# Altium footprint library flight-controller.PcbLib: 66 footprints (part 2 of 5)
Each footprint in its own frame and in the unit in brackets; x right, y up, seen from the top. Pads: shape width x height; smd on the part's side, far side on the other; paste and mask are expansions set on the pad; w line width, h text height; cw(c..) or ccw(c..) is an arc to the next point about the centre after c.
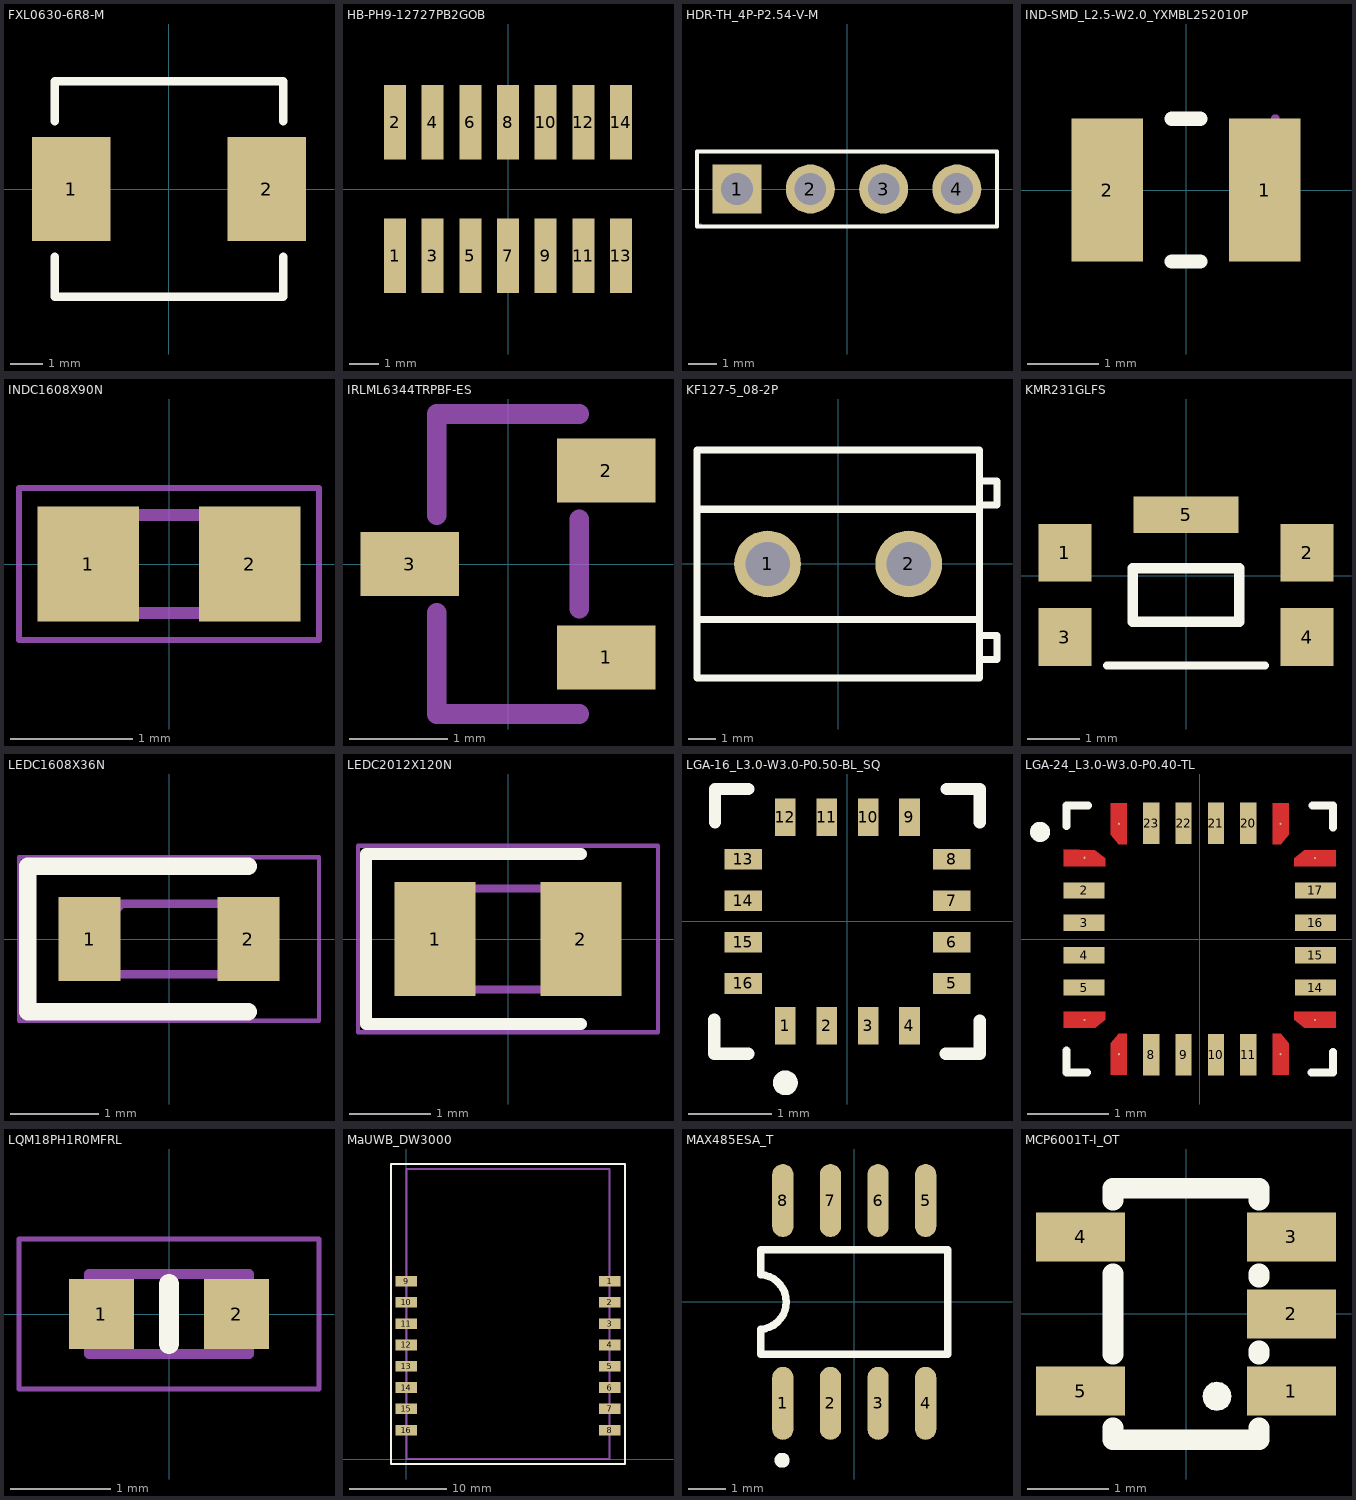
[diagram p1: the footprints below, top view; thin cyan lines are the x and y axes]

## FXL0630-6R8-M [mm]
pads (2):
  rect 2.4x3.2 smd: 1(-3,0) 2(3,0)
Top Overlay:
  lines w0.254: -3.5,-2.081 -3.5,-3.3 -3.49,-3.3 3.5,-3.3 3.5,-2.081 ; -3.5,2.081 -3.5,3.3 3.48,3.3 3.5,3.28 ; 3.5,2.081 3.5,3.3
3D body "FXL0630-6R8-M.step": height 3.1, standoff 0, extent -3.5,-3.301 3.5,3.3

## HB-PH9-12727PB2GOB [mm]
pads (14):
  rect 0.74x2.5 smd: 1(-3.81,-2.25) 2(-3.81,2.25) 3(-2.54,-2.25) 4(-2.54,2.25) 5(-1.27,-2.25) 6(-1.27,2.25) 7(0,-2.25) 8(0,2.25) 9(1.27,-2.25) 10(1.27,2.25) 11(2.54,-2.25) 12(2.54,2.25) 13(3.81,-2.25) 14(3.81,2.25)
3D body "HB-PH9-12727PB2GOB.step": height 5.5, standoff 0, extent -4.455,-2.75 4.445,2.75

## HDR-TH_4P-P2.54-V-M [mm]
pads (4):
  rect 1.7x1.7 hole 1.1: 1(-3.81,0)
  round 1.7 hole 1.1: 2(-1.27,0) 3(1.27,0) 4(3.81,0)
Top Overlay:
  lines w0.15: -5.2,-1.3 -5.2,1.3 5.2,1.3 5.2,-1.3 -5.2,-1.3
Mechanical 6:
  circle w0.06: c-5.08,-1.25 r0.03
3D body "HDR-TH_4P-P2.54-M-LI-1X4P.step": height 8.54, standoff -3, extent -5.08,-1.33 5.09,1.33

## IND-SMD_L2.5-W2.0_YXMBL252010P [mm]
pads (2):
  rect 1x2 smd: 1(1.1,0) 2(-1.1,0)
Top Overlay:
  lines w0.2: -0.2,-1 0.2,-1 ; -0.2,1 0.2,1
Mechanical 6:
  circle w0.06: c1.25,1 r0.03
3D body "IND-SMD_L2.5-W2.0_YXMBL252010P.step": height 1, standoff -0.01, extent -1.26,-1.01 1.26,1

## INDC1608X90N [mm]
pads (2):
  rect 0.83x0.94 smd: 1(-0.66,0) 2(0.66,0)
Mechanical 13:
  lines w0.1: -0.8,-0.4 0.8,-0.4 0.8,0.4 -0.8,0.4 -0.8,-0.4
Mechanical 15:
  lines w0.05: -1.225,-0.62 1.225,-0.62 1.225,0.62 -1.225,0.62 -1.225,-0.62
3D body "LQG18HN27NJ00D.stp": height 0.95, standoff 0, extent -0.8,-0.4 0.8,0.4

## IRLML6344TRPBF-ES [mm]
pads (3):
  rect 1x0.65 smd: 1(1,-0.95) 2(1,0.95) 3(-1,0)
Mechanical 15:
  lines w0.2: -0.726,-0.495 -0.726,-1.526 0.726,-1.526 ; -0.726,0.495 -0.726,1.526 0.726,1.526 ; 0.726,-0.455 0.726,0.455
3D body "IRLML6344TRPBF-ES.step": height 1.1, standoff 0.05, extent -1.253,-1.45 1.253,1.45

## KF127-5_08-2P [mm]
pads (2):
  rrect100% 2.4x2.4 hole 1.6: 1(-2.54,0) 2(2.54,0)
Top Overlay:
  lines w0.254: -5.08,-1.993 5.08,-1.993 ; -5.08,1.97 5.08,1.97 ; 5.08,-3.429 5.715,-3.429 5.715,-2.572 5.08,-2.572 ; 5.08,2.127 5.715,2.127 5.715,2.984 5.08,2.984 ; -5.08,-4.1 5.08,-4.1 5.08,4.1 -5.08,4.1 -5.08,-4.1
3D body "KF127-5_08-2P.step": height 10.1, standoff -3.5, extent -5.08,-4.1 5.65,4.1

## KMR231GLFS [mm]
pads (5):
  rect 1x1.1 smd: 1(-2.3,0.438) 2(2.3,0.438) 3(-2.3,-1.162) 4(2.3,-1.162)
  rect 2x0.7 smd: 5(0,1.162)
Top Overlay:
  lines w0.15: -1.5,-1.7 1.5,-1.7
  lines w0.2: -1.016,-0.87 -1.016,0.146 1.016,0.146 1.016,-0.87 -1.016,-0.87
3D body "KMR231GLFS.step": height 1.95, standoff -0.03, extent -2.275,-1.775 2.325,1.068

## LEDC1608X36N [mm]
pads (2):
  rect 0.7x0.95 smd: 1(-0.9,0) 2(0.9,0)
Top Overlay:
  lines w0.2: 0.9,-0.825 -1.6,-0.825 -1.6,0.825 0.9,0.825
Mechanical 13:
  lines w0.1: -0.8,0.133 -0.533,0.4 ; -0.8,-0.4 0.8,-0.4 0.8,0.4 -0.8,0.4 -0.8,-0.4
Mechanical 15:
  lines w0.05: -1.7,-0.925 1.7,-0.925 1.7,0.925 -1.7,0.925 -1.7,-0.925
3D body "SML-E12P8WT86.step": height 0.59, standoff -0.01, extent -0.81,-0.4 0.81,0.4

## LEDC2012X120N [mm]
pads (2):
  rect 1x1.4 smd: 1(-0.9,0) 2(0.9,0)
Top Overlay:
  lines w0.15: 0.9,-1.05 -1.75,-1.05 -1.75,1.05 0.9,1.05
Mechanical 13:
  lines w0.1: -1,0.208 -0.583,0.625 ; -1,-0.625 -1,0.625 1,0.625 1,-0.625 -1,-0.625
Mechanical 15:
  lines w0.05: -1.85,-1.15 -1.85,1.15 1.85,1.15 1.85,-1.15 -1.85,-1.15
3D body "LTST-C170KRKT.stp": height 1.1, standoff 0, extent -1.028,-0.62 0.972,0.63

## LGA-16_L3.0-W3.0-P0.50-BL_SQ [mm]
pads (16):
  rect 0.25x0.45 smd: 1(-0.75,-1.26) 2(-0.25,-1.26) 3(0.25,-1.26) 4(0.75,-1.26) 9(0.75,1.26) 10(0.25,1.26) 11(-0.25,1.26) 12(-0.75,1.26)
  rect 0.45x0.25 smd: 5(1.26,-0.75) 6(1.26,-0.25) 7(1.26,0.25) 8(1.26,0.75) 13(-1.26,0.75) 14(-1.26,0.25) 15(-1.26,-0.25) 16(-1.26,-0.75)
Top Overlay:
  circle w0.15: c-0.75,-1.95 r0.075
  lines w0.15: -1.61,-1.19 -1.61,-1.6 -1.2,-1.6 ; -1.6,1.2 -1.6,1.6 -1.2,1.6 ; 1.19,-1.6 1.6,-1.6 1.6,-1.2 ; 1.2,1.6 1.6,1.6 1.6,1.2
3D body "LGA-16_L3.0-W3.0-H0.9-P0.50.step": height 0.92, standoff 0, extent -1.5,-1.5 1.5,1.5

## LGA-24_L3.0-W3.0-P0.40-TL [mm]
pads (32):
  round 0.01 smd: 1(-1.43,1) 6(-1.43,-1) 7(-1,-1.43) 12(1,-1.43) 13(1.43,-1) 18(1.43,1) 19(1,1.43) 24(-1,1.43)
  round 0.025 smd: 1(-1.425,1.005) 6(-1.425,-1) 7(-1,-1.425) 12(1,-1.425) 13(1.425,-1) 18(1.425,1) 19(1,1.425) 24(-1,1.425)
  rect 0.51x0.2 smd: 2(-1.43,0.6) 3(-1.43,0.2) 4(-1.43,-0.2) 5(-1.43,-0.6) 14(1.43,-0.6) 15(1.43,-0.2) 16(1.43,0.2) 17(1.43,0.6)
  rect 0.2x0.51 smd: 8(-0.6,-1.43) 9(-0.2,-1.43) 10(0.2,-1.43) 11(0.6,-1.43) 20(0.6,1.43) 21(0.2,1.43) 22(-0.2,1.43) 23(-0.6,1.43)
Top Layer:
  region: -1.17,-1 -1.29,-1.1 -1.68,-1.1 -1.68,-0.9 -1.17,-0.9
  region: -0.9,-1.68 -1.1,-1.68 -1.1,-1.29 -1,-1.17 -0.9,-1.17
  region: 1.1,-1.29 1.1,-1.68 0.9,-1.68 0.9,-1.17 1,-1.17
  region: 1.68,-1.1 1.29,-1.1 1.17,-1 1.17,-0.9 1.68,-0.9
  region: 1.68,0.9 1.17,0.9 1.17,1 1.29,1.1 1.68,1.1
  region: 1.1,1.29 1,1.17 0.9,1.17 0.9,1.68 1.1,1.68
  region: -0.9,1.17 -1,1.17 -1.1,1.29 -1.1,1.68 -0.9,1.68
  region: -1.3,1.1 -1.17,1 -1.17,0.9 -1.68,0.9 -1.68,1.11
Top Overlay:
  circle w0.15: c-1.975,1.325 r0.05
  lines w0.1: -1.65,-1.38 -1.65,-1.65 -1.395,-1.65 ; -1.65,1.395 -1.65,1.65 ; -1.635,1.65 -1.38,1.65 ; 1.38,-1.65 1.635,-1.65 ; 1.395,1.65 1.65,1.65 ; 1.65,-1.65 1.65,-1.395 ; 1.65,1.38 1.65,1.635
Top Paste:
  region: 1.1,1.29 1,1.17 0.9,1.17 0.9,1.68 1.1,1.68
  region: 1.68,-1.1 1.29,-1.1 1.17,-1 1.17,-0.9 1.68,-0.9
  region: -0.9,-1.68 -1.1,-1.68 -1.1,-1.29 -1,-1.17 -0.9,-1.17
  region: -1.29,1.1 -1.17,1 -1.17,0.9 -1.68,0.9 -1.68,1.11
  region: -0.9,1.17 -1,1.17 -1.1,1.29 -1.1,1.68 -0.9,1.68
  region: -1.17,-1 -1.29,-1.1 -1.68,-1.1 -1.68,-0.9 -1.17,-0.9
  region: 1.1,-1.29 1.1,-1.68 0.9,-1.68 0.9,-1.17 1,-1.17
  region: 1.68,0.9 1.17,0.9 1.17,1 1.29,1.1 1.68,1.1
Top Solder:
  region: 1.1,1.29 1,1.17 0.9,1.17 0.9,1.68 1.1,1.68
  region: 1.68,-1.1 1.29,-1.1 1.17,-1 1.17,-0.9 1.68,-0.9
  region: -0.9,-1.68 -1.1,-1.68 -1.1,-1.29 -1,-1.17 -0.9,-1.17
  region: -1.29,1.1 -1.17,1 -1.17,0.9 -1.68,0.9 -1.68,1.11
  region: -0.9,1.17 -1,1.17 -1.1,1.29 -1.1,1.68 -0.9,1.68
  region: -1.17,-1 -1.29,-1.1 -1.68,-1.1 -1.68,-0.9 -1.17,-0.9
  region: 1.1,-1.29 1.1,-1.68 0.9,-1.68 0.9,-1.17 1,-1.17
  region: 1.68,0.9 1.17,0.9 1.17,1 1.29,1.1 1.68,1.1
3D body "LGA-24_L3.0-W3.0-P0.40-TL.step": height 0.95, standoff -0.01, extent -1.5,-1.5 1.5,1.5

## LQM18PH1R0MFRL [mm]
pads (2):
  rect 0.65x0.7 smd: 1(-0.675,0) 2(0.675,0)
Top Overlay:
  lines w0.2: 0,-0.3 0,0.3
Mechanical 13:
  lines w0.1: -0.8,-0.4 -0.8,0.4 0.8,0.4 0.8,-0.4 -0.8,-0.4
Mechanical 15:
  lines w0.05: -1.5,-0.75 -1.5,0.75 1.5,0.75 1.5,-0.75 -1.5,-0.75
3D body "LQG18HN27NJ00D.stp": height 0.95, standoff 0, extent -0.8,-0.4 0.8,0.4

## MaUWB_DW3000 [mm]
pads (16):
  rect 2.2x1.1 smd: 1(21,18.4) 2(21,16.2) 3(21,14) 4(21,11.8) 5(21,9.6) 6(21,7.4) 7(21,5.2) 8(21,3) 9(0,18.4) 10(0,16.2) 11(0,14) 12(0,11.8) 13(0,9.6) 14(0,7.4) 15(0,5.2) 16(0,3)
Top Overlay:
  lines w0.2: -1.6,-0.5 -1.6,30.5 22.6,30.5 22.6,-0.5 -1.6,-0.5
Mechanical 6:
  lines w0.2: 0,0 0,30 21,30 21,0 0,0

## MAX485ESA_T [mil]
pads (8):
  rrect100% 22.38x76.78 smd: 1(-75,-106.5) 2(-25,-106.5) 3(25,-106.5) 4(75,-106.5) 5(75,106.5) 6(25,106.5) 7(-25,106.5) 8(-75,106.5)
Top Overlay:
  circle w7.87: c-75.79,-166.34 r3.94
  lines w7.87: -98.43,28.59 -98.43,55 98.43,55 98.43,-55 -98.43,-55 -98.43,-28.61 ccw(c-99.99,0) -98.23,28.59
3D body "MAX485ESA_T.step": height 66.93, standoff 0, extent -96.46,-118.11 96.46,118.11

## MCP6001T-I_OT [mm]
pads (5):
  rect 1.1x0.6 smd: 1(1.3,-0.95) 2(1.3,0) 3(1.3,0.95) 4(-1.3,0.95) 5(-1.3,-0.95)
Top Overlay:
  region: 0.449,-0.851 0.507,-0.889 0.545,-0.948 0.558,-1.016 0.545,-1.084 0.507,-1.143 0.449,-1.181 0.381,-1.195 0.313,-1.181 0.255,-1.143 0.217,-1.084 0.204,-1.016 0.217,-0.948 0.255,-0.889 0.313,-0.851 0.381,-0.837
  lines w0.254: -0.9,-1.404 -0.9,-1.55 0.9,-1.55 0.9,-1.404 ; -0.9,-0.496 -0.9,0.496 ; -0.9,1.404 -0.9,1.55 0.9,1.55 0.9,1.404 ; 0.9,-0.496 0.9,-0.454 ; 0.9,0.454 0.9,0.496
Mechanical 6:
  region: 1.475,-0.828 1.541,-0.872 1.585,-0.938 1.601,-1.016 1.585,-1.094 1.541,-1.16 1.475,-1.204 1.397,-1.22 1.319,-1.204 1.253,-1.16 1.209,-1.094 1.193,-1.016 1.209,-0.938 1.253,-0.872 1.319,-0.828 1.397,-0.812
3D body "MCP6001T-I_OT.step": height 1.2, standoff -0.05, extent -1.506,-1.45 1.506,1.45